# EAGLE library part MAX31856 (library miller)
MAX31856 Thermocouple convertor Maxim Integrated Digikey PN MAX31856MUD+-ND <https://www.digikey.com/product-detail/en/maxim-integrated/MAX31856MUD-/MAX31856MUD--ND/5050138>
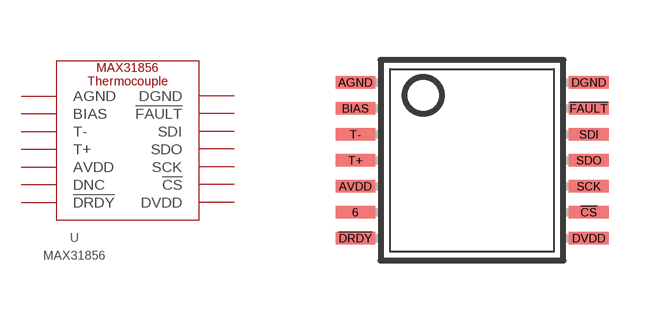
[diagram p35: symbol with the pads of MAX31856_TSSOP14; footprint MAX31856_TSSOP14]

Designator prefix -

## MAX31856  [MAX31856_TSSOP14]
6  DNC  nc
!CS  !CS
!DRDY  !DRDY
!FAULT  !FAULT
AGND  AGND
AVDD  AVDD  pwr
BIAS  BIAS
DGND  DGND
DVDD  DVDD  pwr
SCK  SCK
SDI  SDI
SDO  SDO
T+  T+
T-  T-

## Footprint MAX31856_TSSOP14 (pad centres in mm)
MAX31856 Thermocouple sensor footprint TSSOP14 footprint
smd 0.991 x 0.305: 6 -2.918,-1.3; !CS 2.918,-1.3; !DRDY -2.918,-1.95; !FAULT 2.918,1.3; AGND -2.918,1.95; AVDD -2.918,-0.65; BIAS -2.918,1.3; DGND 2.918,1.95; DVDD 2.918,-1.95; SCK 2.918,-0.65; SDI 2.918,0.65; SDO 2.918,0; T+ -2.918,0; T- -2.918,0.65